# Altium schematic symbol library BC846A.Schlib: 1 symbol
Pins are listed as number, name and electrical type; pins without a type are passive.

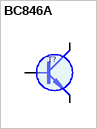
[diagram p0: symbol BC846A]

## BC846A
designator T?
SOT23     65V 0.1A 100MHz 4.5p (10V) (BC856A)
pins: 1 B, 2 E (oe), 3 C (oc)
1 alternate drawing of the same symbol